# EAGLE library part W25Q128JVPIQ_TR (library W25Q128JVPIQ_TR)
NOR Flash spiFlash, 3V, 128M-bit, 4Kb Uniform Sector Source: Datasheet <https://www.winbond.com/resource-files/w25q128jv revf 03272018 plus.pdf>
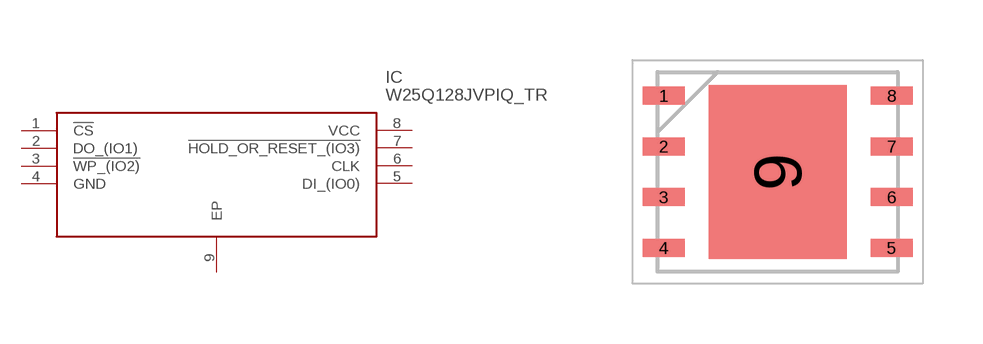
[diagram p0: symbol with the pads of SON127P600X500X80-9N; footprint SON127P600X500X80-9N]

Designator prefix IC

## W25Q128JVPIQ_TR (Description: NOR Flash spiFlash, 3V, 128M-bit, 4Kb Uniform Sector; Height: 0.8mm; Manufacturer_Name: Winbond; Manufacturer_Part_Number: W25Q128JVPIQ TR; Mouser_Part_Number: 454-W25Q128JVPIQTR; Mouser_Price-Stock: https://www.mouser.co.uk/ProductDetail/Winbond/W25Q128JVPIQ-TR?qs=qSfuJ%252Bfl%2Fd6H7vbXyrDu3w%3D%3D)  [SON127P600X500X80-9N]
1  !CS
2  DO_(IO1)
3  !WP_(IO2)
4  GND
5  DI_(IO0)
6  CLK
7  !HOLD_OR_RESET_(IO3)
8  VCC
9  EP

## Footprint SON127P600X500X80-9N (pad centres in mm)
8-Pad WSON 6x5-mm (Package Code P)
smd 1.05 x 0.45: 1 -2.85,1.905; 2 -2.85,0.635; 3 -2.85,-0.635; 4 -2.85,-1.905; 5 2.85,-1.905; 6 2.85,-0.635; 7 2.85,0.635; 8 2.85,1.905
smd 3.45 x 4.35: 9 0,0